# Altium schematic symbol library lcd.SchLib: 18 symbols
Pins are listed as number, name and electrical type; pins without a type are passive.

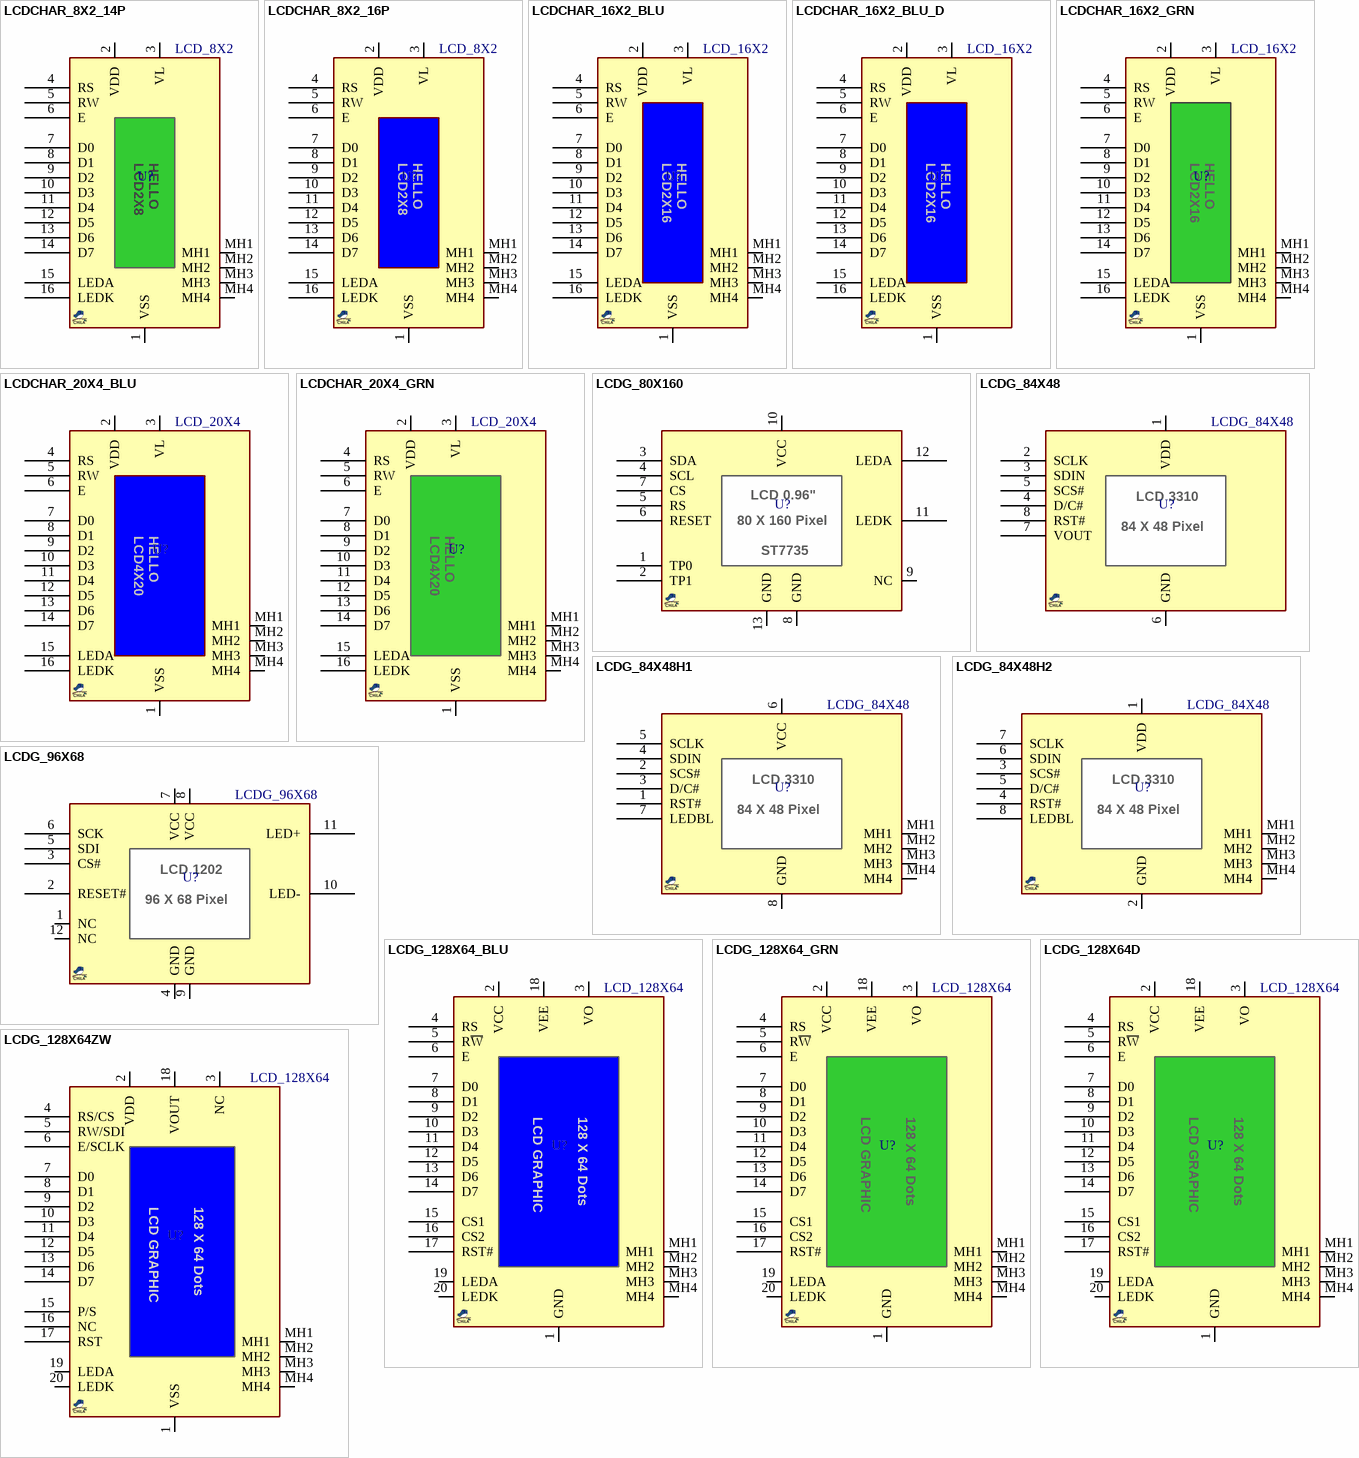
[diagram p0: symbols LCDCHAR_8X2_14P to LCDG_128X64ZW]

## LCDCHAR_8X2_14P
designator U?, comment LCD_8X2
LCD Character Disp, 8X2, header2x7; MANF: Newhaven; MANF_P#: NHD‐0208BZ‐FL‐GBW; PARAM2: Gray, Yellow/Green LED Backlight, 5V; PARAM: 2 lines x 8 characters; VALUE: LCD_8X2
footprint LCDCHAR_8X2_14P (LCD Characters Display, 2linesX8char, header2x7 + 2)
pins: 1 VSS, 2 VDD, 3 VL, 4 RS, 5 RW, 6 E, 7 D0, 8 D1, 9 D2, 10 D3, 11 D4, 12 D5, 13 D6, 14 D7, 15 LEDA, 16 LEDK, MH1, MH2, MH3, MH4
text: LCD2X8; HELLO

## LCDCHAR_8X2_16P
designator U?, comment LCD_8X2
LCD Character Disp, 8X2; MANF: Hantronix; MANF_P#: HDM08216L-3-L30S; PARAM2: Gray, Yellow LED Backlight, 5V; PARAM: 2 lines x 8 characters; VALUE: LCD_8X2
footprint LCDCHAR_8X2_16P (LCD Characters Display, 2linesX8char, header2x8)
pins: 1 VSS, 2 VDD, 3 VL, 4 RS, 5 RW, 6 E, 7 D0, 8 D1, 9 D2, 10 D3, 11 D4, 12 D5, 13 D6, 14 D7, 15 LEDA, 16 LEDK, MH1, MH2, MH3, MH4
text: LCD2X8; HELLO

## LCDCHAR_16X2_BLU
designator U?, comment LCD_16X2
LCD Character Disp, 16X2; MANF: Newhaven; MANF_P#: NHD-0216K3Z-NSW-BBW-V3; PARAM2: Blue back, White, 5V; PARAM: 2 lines x 16 characters; VALUE: LCD_16X2
footprint LCDCHAR_16X2_BLU (LCD Characters Display, 2linesX16char, Blue, header1x16)
pins: 1 VSS, 2 VDD, 3 VL, 4 RS, 5 RW, 6 E, 7 D0, 8 D1, 9 D2, 10 D3, 11 D4, 12 D5, 13 D6, 14 D7, 15 LEDA, 16 LEDK, MH1, MH2, MH3, MH4
text: LCD2X16; HELLO

## LCDCHAR_16X2_BLU_D
designator U?, comment LCD_16X2
LCD Character Disp, 16X2; MANF: Newhaven; MANF_P#: NHD-0216K3Z-NSW-BBW-V3; PARAM2: Blue back, White, 5V; PARAM: 2 lines x 16 characters; VALUE: LCD_16X2
footprint LCDCHAR_16X2_BLU_D (Footprint not found)
pins: 1 VSS, 2 VDD, 3 VL, 4 RS, 5 RW, 6 E, 7 D0, 8 D1, 9 D2, 10 D3, 11 D4, 12 D5, 13 D6, 14 D7, 15 LEDA, 16 LEDK
text: LCD2X16; HELLO

## LCDCHAR_16X2_GRN
designator U?, comment LCD_16X2
LCD Character Disp, 16X2; MANF: elcodis, sunrom; MANF_P#: JHD162A, TS1620A-20; PARAM2: Green back, Gray, 5V; PARAM: 2 lines x 16 characters; VALUE: LCD_16X2
footprint LCDCHAR_16X2_GRN (LCD Characters Display, 2linesX16char, Green, header1x16)
pins: 1 VSS, 2 VDD, 3 VL, 4 RS, 5 RW, 6 E, 7 D0, 8 D1, 9 D2, 10 D3, 11 D4, 12 D5, 13 D6, 14 D7, 15 LEDA, 16 LEDK, MH1, MH2, MH3, MH4
text: LCD2X16; HELLO

## LCDCHAR_20X4_BLU
designator U?, comment LCD_20X4
LCD Character Disp, 20X4; MANF: Newhaven; MANF_P#: NHD-0420D3Z-NSW-BBW-V3; PARAM2: Blue back, White, 5V; PARAM: 4 lines x 20 characters; VALUE: LCD_20X4
footprint LCDCHAR_20X4_BLU (LCD Characters Display, 4linesX20char, Blue, header1x16)
pins: 1 VSS, 2 VDD, 3 VL, 4 RS, 5 RW, 6 E, 7 D0, 8 D1, 9 D2, 10 D3, 11 D4, 12 D5, 13 D6, 14 D7, 15 LEDA, 16 LEDK, MH1, MH2, MH3, MH4
text: LCD4X20; HELLO

## LCDCHAR_20X4_GRN
designator U?, comment LCD_20X4
LCD Character Disp, 20X4; MANF: Sunrom; MANF_P#: JHD204A; PARAM2: Green back, Gray, 5V; PARAM: 4 lines x 20 characters; VALUE: LCD_20X4
footprint LCDCHAR_20X4_GRN (LCD Characters Display, 4linesX20char, Green, header1x16)
pins: 1 VSS, 2 VDD, 3 VL, 4 RS, 5 RW, 6 E, 7 D0, 8 D1, 9 D2, 10 D3, 11 D4, 12 D5, 13 D6, 14 D7, 15 LEDA, 16 LEDK, MH1, MH2, MH3, MH4
text: LCD4X20; HELLO

## LCDG_80X160
designator U?, comment LCDG_0.96"_80X160  (value not drawn)
LCD, TFT, 0.96", 80X160; PARAM2: 2.7~3.3VCC; MANF: -; MANF_P#: -; PARAM: -; VALUE: LCDG_0.96"_80X160
footprint LCDG_0P96_80X160 (TFT LCD 0.96 inch-80x160 - ST7735)
pins: 1 TP0 (power), 2 TP1 (power), 3 SDA (power), 4 SCL (power), 5 RS (power), 6 RESET (power), 7 CS (power), 8 GND (power), 9 NC (power), 10 VCC (power), 11 LEDK (power), 12 LEDA (power), 13 GND (power)
text: LCD 0.96"; 80 X 160 Pixel; ST7735

## LCDG_84X48
designator U?
LCD, monochrome, 1.5", 84X48; MANF: Philips; MANF_P#: NOKIA 3310, 5110, PCD8544; PARAM2: 2.7~3.3VCC; PARAM: monochrome, 1.5", 84X48; VALUE: LCDG_84X48
footprint LCDG_1P5_84X48 (Footprint not found)
pins: 1 VDD, 2 SCLK, 3 SDIN, 4 D/C#, 5 SCS#, 6 GND, 7 VOUT, 8 RST#
text: LCD 3310; 84 X 48 Pixel

## LCDG_84X48H1
designator U?, comment LCDG_84X48
LCD, monochrome, 1.5", 84X48, header; MANF: Philips; MANF_P#: NOKIA 3310, 5110, PCD8544; PARAM2: 2.7~3.3VCC; PARAM: monochrome, 1.5", 84X48; PRICE: ECA; VALUE: LCDG_84X48
footprint LCDG_1P5_84X48H1 (Footprint not found)
pins: 1 RST#, 2 SCS#, 3 D/C#, 4 SDIN, 5 SCLK, 6 VCC, 7 LEDBL, 8 GND, MH1, MH2, MH3, MH4
text: LCD 3310; 84 X 48 Pixel

## LCDG_84X48H2
designator U?, comment LCDG_84X48
LCD, monochrome, 1.5", 84X48, header; MANF: Philips; MANF_P#: NOKIA 3310, 5110, PCD8544; PARAM2: 2.7~3.3VCC; PARAM: monochrome, 1.5", 84X48; PRICE: IranModule; VALUE: LCDG_84X48
footprint LCDG_1P5_84X48H2 (Footprint not found)
pins: 1 VDD, 2 GND, 3 SCS#, 4 RST#, 5 D/C#, 6 SDIN, 7 SCLK, 8 LEDBL, MH1, MH2, MH3, MH4
text: LCD 3310; 84 X 48 Pixel

## LCDG_96X68
designator U?
LCD Monochrome, 1.3", 96X68; MANF: Nokia; MANF_P#: 1202, 1203, 1280; PARAM2: 3.3VIO; PARAM: Monochrome, 1.3", 96X68; PRICE: 4t; VALUE: LCDG_96X68
footprint LCDG_1P3_96X68 (LCD Nokia 1202, 1203, 1280)
pins: 1 NC, 2 RESET#, 3 CS#, 4 GND, 5 SDI, 6 SCK, 7 VCC, 8 VCC, 9 GND, 10 LED-, 11 LED+, 12 NC
text: LCD 1202; 96 X 68 Pixel

## LCDG_128X64_BLU
designator U?, comment LCD_128X64
LCD Graphic Disp, 128X64, with KS108 Controller; MANF_P#: TS12864A-2, LCD12864A, GDM12864A; PARAM2: Blue back, white, 5V; PARAM: 128X64 Dots, 2.9"; MANF: -; VALUE: LCD_128X64
footprint LCDG_128X64_BLU (LCD Graphic Disp, 128X64, TS12864A-2)
pins: 1 GND, 2 VCC, 3 VO, 4 RS, 5 R~{W}, 6 E, 7 D0, 8 D1, 9 D2, 10 D3, 11 D4, 12 D5, 13 D6, 14 D7, 15 CS1, 16 CS2, 17 RST#, 18 VEE, 19 LEDA, 20 LEDK, MH1, MH2, MH3, MH4
text: LCD GRAPHIC; 128 X 64 Dots

## LCDG_128X64_GRN
designator U?, comment LCD_128X64
LCD Graphic Disp, 128X64, with KS108 Controller; MANF: Winstar; MANF_P#: TS12864A-2, WG12864A-1; PARAM2: Green back, Gray, 5V; PARAM: 128X64 Dots, 2.9"; VALUE: LCD_128X64
footprint LCDG_128X64_GRN (LCD Graphic Disp, 128X64, TS12864A-2)
pins: 1 GND, 2 VCC, 3 VO, 4 RS, 5 R~{W}, 6 E, 7 D0, 8 D1, 9 D2, 10 D3, 11 D4, 12 D5, 13 D6, 14 D7, 15 CS1, 16 CS2, 17 RST#, 18 VEE, 19 LEDA, 20 LEDK, MH1, MH2, MH3, MH4
text: LCD GRAPHIC; 128 X 64 Dots

## LCDG_128X64D
designator U?, comment LCD_128X64
LCD Graphic Disp, 128X64, 78X70mm, 2.9"; MANF: Vishay, Winstar; MANF_P#: LCD-128H064D, WDG0151-TMI; PARAM2: Green back, Gray, 5V; PARAM: 128X64 Dots, 2.9"; VALUE: LCD_128X64
footprint LCDG_128X64D (LCD Graphic Disp, 128X64, 78X70mm)
pins: 1 GND, 2 VCC, 3 VO, 4 RS, 5 R~{W}, 6 E, 7 D0, 8 D1, 9 D2, 10 D3, 11 D4, 12 D5, 13 D6, 14 D7, 15 CS1, 16 CS2, 17 RST#, 18 VEE, 19 LEDA, 20 LEDK, MH1, MH2, MH3, MH4
text: LCD GRAPHIC; 128 X 64 Dots

## LCDG_128X64ZW
designator U?, comment LCD_128X64
LCD Graphic Disp, 128X64, ST7920 Controller, SERIAL/PARALLEL; MANF: DIGOLE; MANF_P#: 12864ZW; PARAM2: Blue back, white, 4.5~5.5V; PARAM: 128X64 Dots, 2.9", ST7920; VALUE: LCD_128X64
footprint LCDG_128X64_BLU (LCD Graphic Disp, 128X64, TS12864A-2)
pins: 1  VSS, 2  VDD, 3 NC, 4  RS/CS, 5  RW/SDI, 6  E/SCLK, 7  D0, 8  D1, 9  D2, 10 D3, 11 D4, 12 D5, 13 D6, 14 D7, 15 P/S, 16 NC, 17 RST, 18 VOUT, 19 LEDA, 20 LEDK, MH1, MH2, MH3, MH4
text: LCD GRAPHIC; 128 X 64 Dots

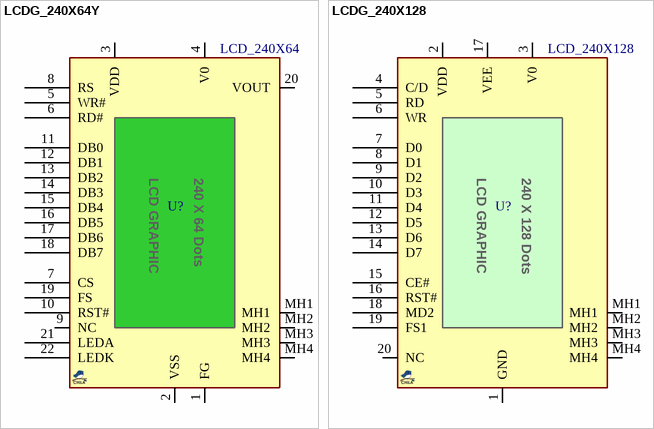
[diagram p1: symbols LCDG_240X64Y to LCDG_240X128]

## LCDG_240X64Y
designator U?, comment LCD_240X64
LCD Graphic Disp, 240X64, 180X65mm, 5.2"; MANF: Vishay, Winstar; MANF_P#: YB24064-B; PARAM2: Green back, Gray, 5V; PARAM: 240X64 Dots, 5.2"; VALUE: LCD_240X64
footprint LCDG_240X64Y (LCD Graphic Disp, 240X64, YB24064-B)
pins: 1 FG, 2 VSS, 3 VDD, 4 V0, 5 WR#, 6 RD#, 7 CS, 8 RS, 9 NC, 10 RST#, 11 DB0, 12 DB1, 13 DB2, 14 DB3, 15 DB4, 16 DB5, 17 DB6, 18 DB7, 19 FS, 20 VOUT, 21 LEDA, 22 LEDK, MH1, MH2, MH3, MH4
text: LCD GRAPHIC; 240 X 64 Dots

## LCDG_240X128
designator U?, comment LCD_240X128
LCD Graphic Disp, 240X128, with T6963 Controller; MANF: Winstar; MANF_P#: TS12864A-2, WG12864A-1; PARAM2: Green back, Gray, 5V; PARAM: 128X64 Dots, 4.7"; VALUE: LCD_240X128
footprint LCDG_240X128 (LCD Graphic Disp, 240X128, TS240128 With T6963 Controller, 144x104x12mm)
pins: 1 GND, 2 VDD, 3 V0, 4 C/D, 5 RD, 6 WR, 7 D0, 8 D1, 9 D2, 10 D3, 11 D4, 12 D5, 13 D6, 14 D7, 15 CE#, 16 RST#, 17 VEE, 18 MD2, 19 FS1, 20 NC, MH1, MH2, MH3, MH4
text: LCD GRAPHIC; 240 X 128 Dots